# EAGLE library part SI4731-D60-GU (library microbuilder)
Silicon Labs Si4731 AM/FM/SW/LW Radio Receiver -- SSOP Package
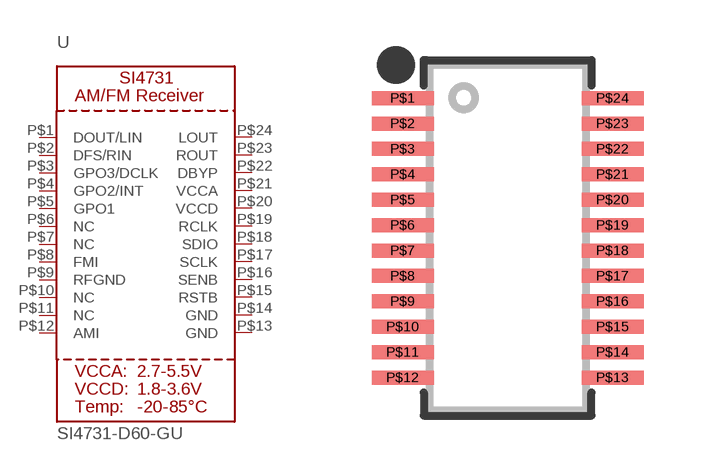
[diagram p195: symbol with the pads of SI473X_SSOP; footprint SI473X_SSOP]

Designator prefix U

## SI4731-D60-GU  [SI473X_SSOP]
P$1  DOUT/LIN
P$2  DFS/RIN
P$3  GPO3/DCLK
P$4  GPO2/INT
P$5  GPO1
P$6  NC
P$7  NC
P$8  FMI
P$9  RFGND
P$10  NC
P$11  NC
P$12  AMI
P$13  GND
P$14  GND
P$15  RSTB
P$16  SENB
P$17  SCLK
P$18  SDIO
P$19  RCLK
P$20  VCCD
P$21  VCCA
P$22  DBYP
P$23  ROUT
P$24  LOUT

## Footprint SI473X_SSOP (pad centres in mm)
Source: http://www.silabs.com/Support%20Documents/TechnicalDocs/Si4730-31-34-35-D60.pdf
smd 1.55 x 0.35: P$1 -2.625,3.493; P$2 -2.625,2.857; P$3 -2.625,2.223; P$4 -2.625,1.587; P$5 -2.625,0.953; P$6 -2.625,0.318; P$7 -2.625,-0.318; P$8 -2.625,-0.953; P$9 -2.625,-1.587; P$10 -2.625,-2.223; P$11 -2.625,-2.857; P$12 -2.625,-3.493; P$13 2.625,-3.493; P$14 2.625,-2.857; P$15 2.625,-2.223; P$16 2.625,-1.587; P$17 2.625,-0.953; P$18 2.625,-0.318; P$19 2.625,0.318; P$20 2.625,0.953; P$21 2.625,1.587; P$22 2.625,2.223; P$23 2.625,2.857; P$24 2.625,3.493